# EAGLE library part NMOSFET-D2PAK-7 (library D2PAK-7)
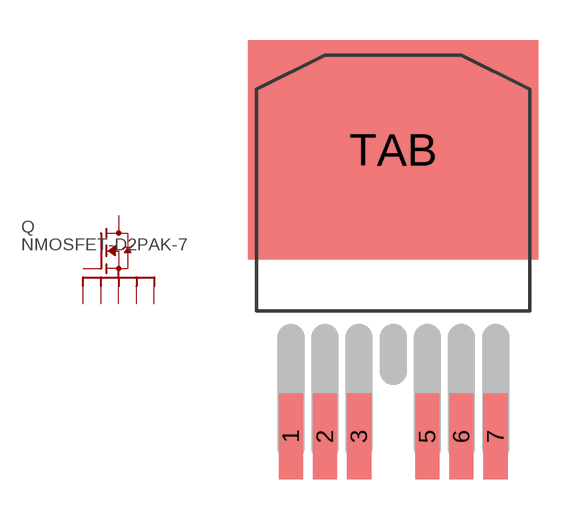
[diagram p0: symbol with the pads of D2PAK-7; footprint D2PAK-7]

Designator prefix Q

## NMOSFET-D2PAK-7  [D2PAK-7]
1  G  pas
2  S1  pas
3  S2  pas
5  S3  pas
6  S4  pas
7  S5  pas
TAB  D  pas

## Footprint D2PAK-7 (pad centres in mm)
smd 0.9 x 3.2: 1 -3.81,-6.56; 2 -2.54,-6.56; 3 -1.27,-6.56; 5 1.27,-6.56; 6 2.54,-6.56; 7 3.81,-6.56
smd 10.8 x 8.15: TAB 0,4.1